# Altium footprint library Edge_logic_analyzer.PcbLib: 51 footprints (part 3 of 4)
Each footprint in its own frame and in the unit in brackets; x right, y up, seen from the top. Pads: shape width x height; smd on the part's side, far side on the other; paste and mask are expansions set on the pad; w line width, h text height; cw(c..) or ccw(c..) is an arc to the next point about the centre after c.
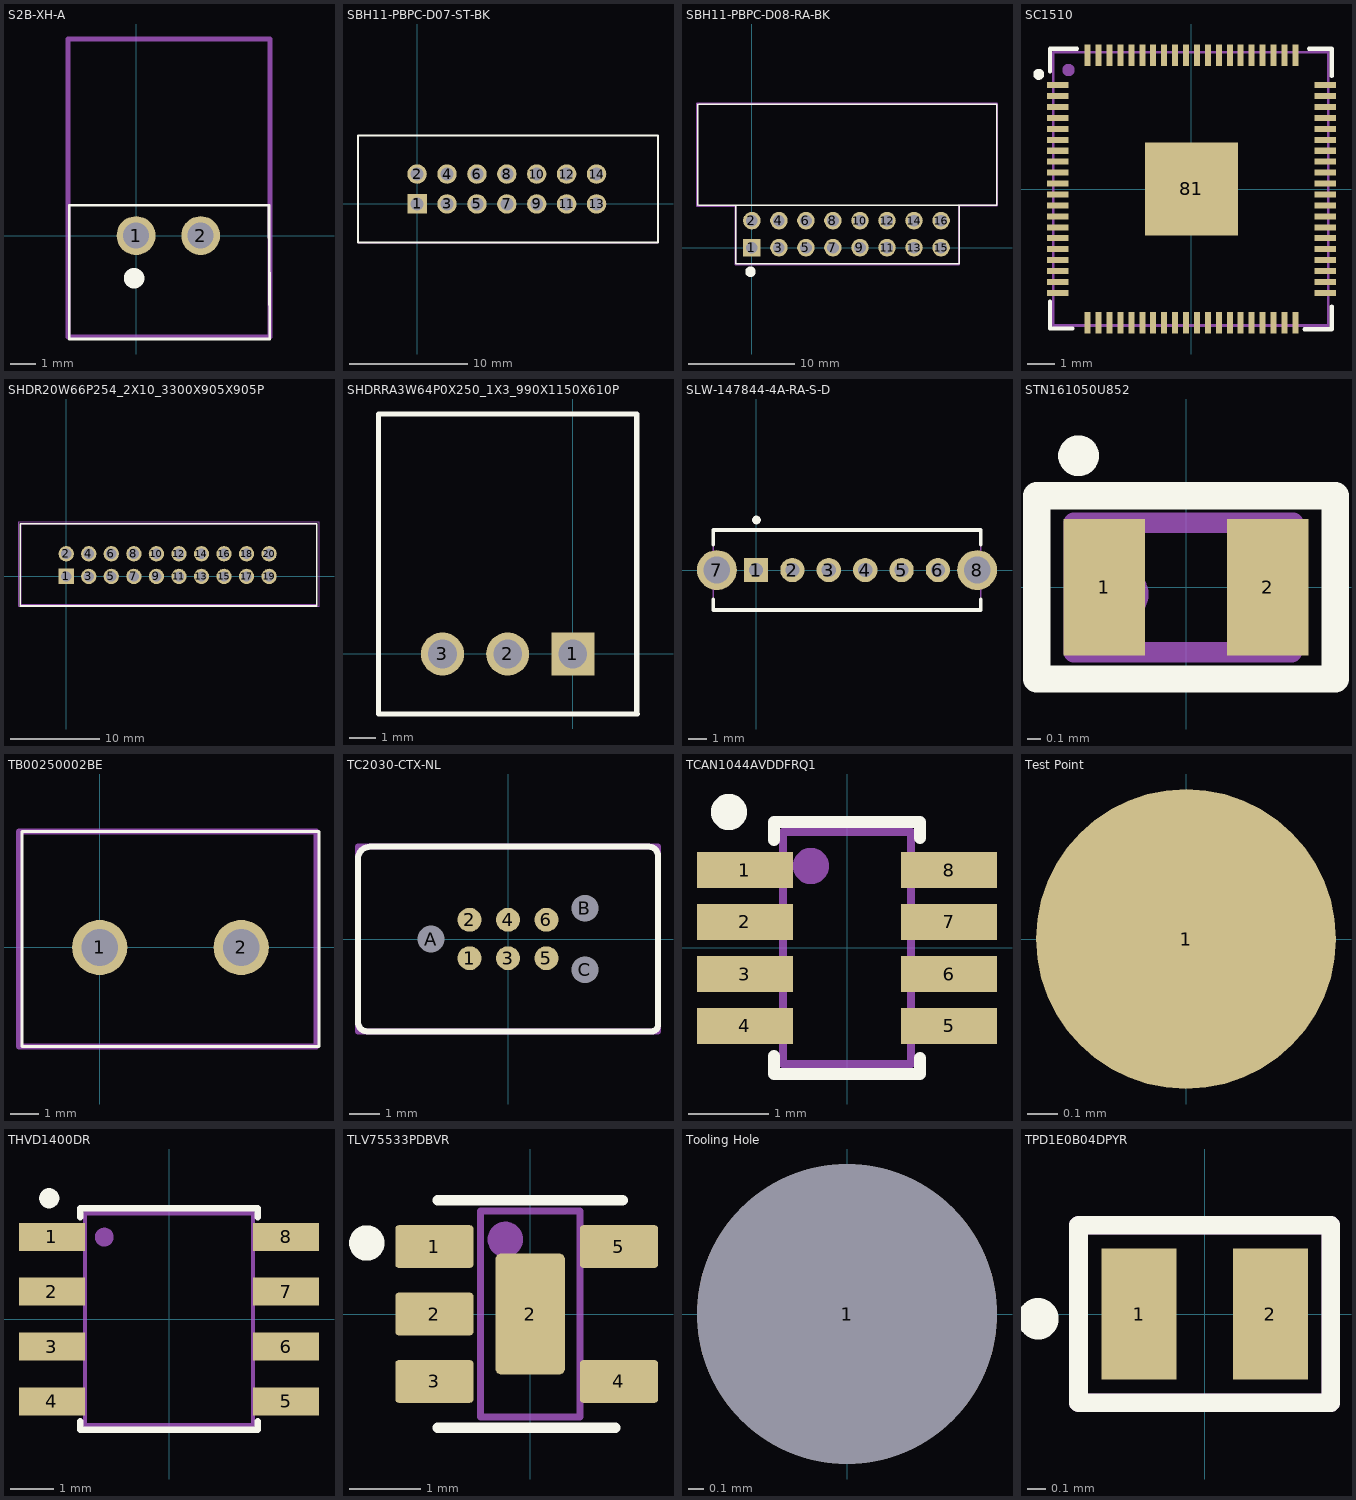
[diagram p2: the footprints below, top view; thin cyan lines are the x and y axes]

## S2B-XH-A [mm]
pads (2):
  round 1.5 hole 1: 1(0,0) 2(2.5,0)
Top Overlay:
  circle w0.5: c-0.075,-1.65 r0.146
  lines w0.1: -2.575,-4 5.165,-4 5.141,1.175 -2.575,1.175 -2.575,-4
Mechanical 29:
  circle w0.5: c0,0 r0.247
  lines w0.2: -2.625,-3.925 0.4,-3.925 5.175,-3.925 5.175,7.6 -2.625,7.6 -2.625,-3.225 -2.625,-3.925
  text "'.Designator'" at 0.625,2.25 h1
3D body "S2B-XH-A-1_LF__SN_.stp": height 6.15, standoff -3.39, extent -2.42,-3.93 4.98,7.57

## SBH11-PBPC-D07-ST-BK [mm]
pads (14):
  rect 1.65x1.65 hole 1.1: 1(0,0)
  round 1.65 hole 1.1: 2(0,2.54) 3(2.54,0) 4(2.54,2.54) 5(5.08,0) 6(5.08,2.54) 7(7.62,0) 8(7.62,2.54) 9(10.16,0) 10(10.16,2.54) 11(12.7,0) 12(12.7,2.54) 13(15.24,0) 14(15.24,2.54)
Top Overlay:
  lines w0.2: -5.02,-3.28 -5.02,0 -5.02,5.82 20.46,5.82 20.46,-3.28 0,-3.28 -5.02,-3.28
Mechanical 29:
  circle w0.5: c0,0 r0.25
  lines w0.1: -5.02,-3.28 -5.02,5.82 20.46,5.82 20.46,-3.28 -5.02,-3.28
  text "'.Designator'" at 6.925,1.275 h1
3D body "SBH11-PBPC-D07-ST-BK.stp": height 9.1, standoff -3, extent -5.02,-3.28 20.26,5.82

## SBH11-PBPC-D08-RA-BK [mm]
pads (16):
  rect 1.65x1.65 hole 1.1: 1(0,0)
  round 1.65 hole 1.1: 2(0,2.54) 3(2.54,0) 4(2.54,2.54) 5(5.08,0) 6(5.08,2.54) 7(7.62,0) 8(7.62,2.54) 9(10.16,0) 10(10.16,2.54) 11(12.7,0) 12(12.7,2.54) 13(15.24,0) 14(15.24,2.54) 15(17.78,0) 16(17.78,2.54)
Top Overlay:
  circle w0.5: c-0.127,-2.261 r0.24
  lines w0.15: -5.076,4 -5.076,13.5 ; -5,4 23,4 23,13.5 -5,13.5 ; -2.191,4 -1.5,4 -1.5,-1.5 19.428,-1.5 19.5,-1.5 19.5,4
Mechanical 29:
  circle w0.5: c0,0 r0.24
  lines w0.2: -5.156,3.937 -5.156,13.538 23.038,13.538 23.038,3.962 19.482,3.962 19.482,-1.549 -1.524,-1.549 -1.524,3.937 -5.156,3.937
  text "'.Designator'" at 7.417,6.096 h1
3D body "SBH11-PBPC-D08-RA-BK.stp": height 9.3, standoff -3.4, extent -5.02,-0.32 22.8,13.28

## SC1510 [mm] "IC - MCU - ARM Microcontrollers - MCU RP2350B 150MHz clock Dual Arm Cortex-M33 cores 520KB RAM 8KB on-chip QFN-80"
pads (81):
  rect 0.78x0.22 smd mask+0.03: 1(-4.896,3.8) 2(-4.896,3.4) 3(-4.896,3) 4(-4.896,2.6) 5(-4.896,2.2) 6(-4.896,1.8) 7(-4.896,1.4) 8(-4.896,1) 9(-4.896,0.6) 10(-4.896,0.2) 11(-4.896,-0.2) 12(-4.896,-0.6) 13(-4.896,-1) 14(-4.896,-1.4) 15(-4.896,-1.8) 16(-4.896,-2.2) 17(-4.896,-2.6) 18(-4.896,-3) 19(-4.896,-3.4) 20(-4.896,-3.8) 41(4.897,-3.801) 42(4.897,-3.401) 43(4.897,-3.001) 44(4.897,-2.601) 45(4.897,-2.201) 46(4.897,-1.801) 47(4.897,-1.401) 48(4.897,-1.001) 49(4.897,-0.601) 50(4.897,-0.201) 51(4.897,0.199) 52(4.897,0.599) 53(4.897,0.999) 54(4.897,1.399) 55(4.897,1.799) 56(4.897,2.199) 57(4.897,2.599) 58(4.897,3) 59(4.897,3.4) 60(4.897,3.799)
  rect 0.22x0.78 smd mask+0.03: 21(-3.8,-4.897) 22(-3.4,-4.897) 23(-3,-4.897) 24(-2.6,-4.897) 25(-2.2,-4.897) 26(-1.8,-4.897) 27(-1.4,-4.897) 28(-1,-4.897) 29(-0.6,-4.897) 30(-0.2,-4.897) 31(0.2,-4.897) 32(0.6,-4.897) 33(1,-4.897) 34(1.4,-4.897) 35(1.8,-4.897) 36(2.2,-4.897) 37(2.6,-4.897) 38(3,-4.897) 39(3.4,-4.897) 40(3.8,-4.897) 61(3.8,4.897) 62(3.4,4.897) 63(3,4.897) 64(2.6,4.897) 65(2.2,4.897) 66(1.8,4.897) 67(1.4,4.897) 68(1,4.897) 69(0.6,4.897) 70(0.2,4.897) 71(-0.2,4.897) 72(-0.6,4.897) 73(-1,4.897) 74(-1.4,4.897) 75(-1.8,4.897) 76(-2.2,4.897) 77(-2.6,4.897) 78(-3,4.897) 79(-3.4,4.897) 80(-3.8,4.897)
  rect 3.4x3.4 smd: 81(0,0)
Top Overlay:
  circle w0.2: c-5.588,4.195 r0.1
  lines w0.15: -5.182,-4.115 -5.182,-5.105 -4.347,-5.105 ; -5.182,4.296 -5.182,5.131 -4.191,5.131 ; 4.14,-5.131 5.131,-5.131 5.131,-4.296 ; 4.296,5.131 5.131,5.131 5.131,4.14
Mechanical 29:
  lines w0.1: -5.059,-4.996 -5.059,5.004 5,5.004 5,-4.996 -5.059,-4.996
  lines w0.254: -4.403,4.376 ccw(c-4.5,4.354) -4.4,4.354
  text "'.Designator'" at -0.6,-0.096 h0.8
3D body "SC1510.stp": height 0.9, standoff 0, extent -5.05,-5.046 5.05,5.054

## SHDR20W66P254_2X10_3300X905X905P [mm]
pads (20):
  rect 1.725x1.725 hole 1.15: 1(0,0)
  round 1.725 hole 1.15: 2(0,2.54) 3(2.54,0) 4(2.54,2.54) 5(5.08,0) 6(5.08,2.54) 7(7.62,0) 8(7.62,2.54) 9(10.16,0) 10(10.16,2.54) 11(12.7,0) 12(12.7,2.54) 13(15.24,0) 14(15.24,2.54) 15(17.78,0) 16(17.78,2.54) 17(20.32,0) 18(20.32,2.54) 19(22.86,0) 20(22.86,2.54)
Top Overlay:
  lines w0.2: -5.175,-3.325 28.23,-3.325 28.23,5.92 -5.175,5.92 -5.175,-3.325
Mechanical 15:
  lines w0.05: -5.32,-3.38 -5.32,6.17 28.48,6.17 28.48,-3.38 -5.32,-3.38
Mechanical 29:
  lines w0.1: -5.07,-3.13 28.23,-3.13 28.23,5.92 -5.07,5.92 -5.07,-3.13
  lines w0.254: 0.119,0.005 ccw(c0.022,-0.018) 0.122,-0.018
  text "'.Designator'" at 9.072,1.075 h0.8
3D body "302-S201.stp": height 9.05, standoff -3.2, extent -5.07,-3.255 27.93,5.795

## SHDRRA3W64P0X250_1X3_990X1150X610P [mm]
pads (3):
  rect 1.65x1.65 hole 1.1: 1(0,0)
  round 1.65 hole 1.1: 2(-2.5,0) 3(-5,0)
Top Overlay:
  lines w0.2: -7.45,-2.3 -7.45,9.2 2.45,9.2 2.45,-2.275 ; -7.425,-2.3 2.475,-2.3
Mechanical 29:
  lines w0.1: -7.45,-2.3 -7.45,9.2 2.45,9.2 2.45,-2.3 -7.45,-2.3
  lines w0.254: 0.097,0.023 ccw(c0,0) 0.1,0
  text "'.Designator'" at -3.5,3.325 h0.8
3D body "S3B-XH-A.STEP": height 6.1, standoff -3.4, extent -7.55,-2.325 2.35,9.175

## SLW-147844-4A-RA-S-D [mm]
pads (8):
  rect 1.337x1.337 hole 0.78: 1(0,0)
  round 1.337 hole 0.78: 2(2,0) 3(4,0) 4(6,0) 5(8,0) 6(10,0)
  round 2.19 hole 1.46: 7(-2.15,0) 8(12.15,0)
Top Overlay:
  circle w0.254: c0.025,2.75 r0.112
  lines w0.2: -2.35,-1.6 -2.35,-2.2 12.35,-2.2 12.35,-1.6 ; -2.35,1.4 -2.35,2.2 12.35,2.2 12.35,1.4
Mechanical 29:
  circle w0.4: c0,0 r0.1
  lines w0.1: -2.35,-2.2 -2.35,2.2 12.35,2.2 12.35,-2.2 -2.35,-2.2
  text "'.Designator'" at 4.4,0.15 h0.8
3D body "SLW-147844-4A-RA-S-D.stp": height 4.7, standoff -3.3, extent -2.35,-6.175 12.35,2.225

## STN161050U852 [mm]
pads (2):
  rect 0.6x1 smd mask+0.064: 1(-0.6,0) 2(0.6,0)
Top Overlay:
  circle w0.2: c-0.787,0.965 r0.05
  lines w0.2: -1.095,-0.672 -1.094,0.673 1.094,0.673 1.094,-0.672 -1.095,-0.672
Mechanical 29:
  circle w0.2: c-0.475,-0.05 r0.1
  lines w0.15: -0.825,0.475 -0.825,-0.475 -0.425,-0.475 0.375,-0.475 0.775,-0.475 0.775,0.475 ; -0.812,0.475 -0.219,0.475 0.319,0.475 0.788,0.475
  text "'.Designator'" at -0.561,-0.102 h0.8
3D body "D1213A-01LP-7B v3.step": height 0.5, standoff 0, extent -0.537,-0.337 0.537,0.337

## TB00250002BE [mm]
pads (2):
  round 1.95 hole 1.3: 1(0,0) 2(5,0)
Top Overlay:
  lines w0.1: -2.75,-3.5 7.75,-3.5 7.75,4.1 -2.75,4.1 -2.75,-3.5
Mechanical 29:
  circle w0.4: c0,0 r0.2
  lines w0.2: -2.852,-3.5 7.648,-3.5 7.648,4.1 -2.852,4.1 -2.852,-3.5
  text "'.Designator'" at 1.575,0.25 h0.8
3D body "TB002-500-02BE.stp": height 9.99, standoff -4.36, extent -2.939,-3.485 7.561,4.115

## TC2030-CTX-NL [mil]
pads (9):
  round 31 smd paste-19.68: 1(-50,-25) 2(-50,25) 3(0,-25) 4(0,25) 5(50,-25) 6(50,25)
  round 34 hole 35 unplated: A(-100,0) B(100,40) C(100,-40)
Top Overlay:
  lines w7.87: -195,-108.15 ccw(c-183.15,-108.15) -183.15,-120 187.09,-120 ccw(c187.09,-112.09) 195,-112.09 195,108.15 ccw(c183.15,108.15) 183.15,120 -179.21,120 ccw(c-179.21,104.21) -195,104.21 -195,-108.15
Mechanical 29:
  lines w7.87: -194.88,-120.08 195,-120.08 195,120.08 -194.88,120.08 -194.88,-120.08
  text "'.Designator'" at -23.62,0 h33.46

## TCAN1044AVDDFRQ1 [mm]
pads (8):
  rect 1.2x0.45 smd mask+0.04: 1(-1.275,0.975) 2(-1.275,0.325) 3(-1.275,-0.325) 4(-1.275,-0.975) 5(1.275,-0.975) 6(1.275,-0.325) 7(1.275,0.325) 8(1.275,0.975)
Top Overlay:
  circle w0.254: c-1.475,1.7 r0.1
  lines w0.15: -0.914,-1.35 -0.914,-1.575 -0.559,-1.575 0.559,-1.575 0.914,-1.575 0.914,-1.375 ; -0.914,1.35 -0.914,1.575 -0.559,1.575 0.559,1.575 0.914,1.575 0.914,1.375
Mechanical 29:
  circle w0.254: c-0.45,1.025 r0.1
  lines w0.1: -0.8,-1.45 0.8,-1.45 0.8,1.45 -0.8,1.45 -0.8,-1.45
  text "'.Designator'" at -0.6,-0.1 h0.8
3D body "TCAN1044AVDDFRQ1.stp": height 0.9, standoff 0, extent -1.41,-1.45 1.41,1.45

## Test Point [mm]
pads (1):
  round 1 smd paste-1: 1(0,0)

## THVD1400DR [mm]
pads (8):
  rect 1.528x0.65 smd mask+0.06: 1(-2.711,1.905) 2(-2.711,0.635) 3(-2.711,-0.635) 4(-2.711,-1.905) 5(2.711,-1.905) 6(2.711,-0.635) 7(2.711,0.635) 8(2.711,1.905)
Top Overlay:
  circle w0.254: c-2.775,2.8 r0.106
  lines w0.15: -2.057,-2.362 -2.057,-2.565 1.321,-2.565 2.057,-2.565 2.057,-2.362 ; -2.057,2.362 -2.057,2.565 1.321,2.565 2.057,2.565 2.057,2.362
Mechanical 29:
  circle w0.254: c-1.5,1.9 r0.09
  lines w0.1: -1.948,-2.452 1.948,-2.452 1.948,2.452 -1.948,2.452 -1.948,-2.452
  text "'.Designator'" at -0.6,-0.1 h0.8
3D body "THVD1400DR.stp": height 1.63, standoff 0, extent -3.011,-2.451 3.011,2.451

## TLV75533PDBVR [mm] "SOT23, 5-Leads, Body 2,85x2,80mm, Pitch 0,95mm, IPC Medium Density"
height 1.2
pads (6):
  rrect15% 1.1x0.6 smd mask+0.051: 1(-1.35,0.95) 2(-1.35,0) 3(-1.35,-0.95) 4(1.25,-0.95) 5(1.25,0.95)
  rrect15% 0.975x1.7 smd mask+0.051: 2(0,0)
Top Overlay:
  circle w0.25: c-2.3,1 r0.125
  lines w0.15: -1.3,-1.6 1.2,-1.6 ; -1.3,1.6 1.3,1.6
Mechanical 29:
  circle w0.25: c-0.35,1.05 r0.125
  lines w0.1: -0.7,-1.45 0.7,-1.45 0.7,1.45 -0.7,1.45 -0.7,-1.45
  text "'.Designator'" at -0.6,-0.1 h0.8
3D body "TLV75533PDBVR.STEP": height 1.45, standoff 0, extent -1.4,-1.45 1.4,1.45

## Tooling Hole [mm]
pads (1):
  round 2 hole 2 unplated: 1(0,0)

## TPD1E0B04DPYR [mm]
pads (2):
  rect 0.4x0.7 smd mask+0.051: 1(-0.35,0) 2(0.35,0)
Top Overlay:
  circle w0.2: c-0.889,-0.025 r0.01
  lines w0.1: -0.672,-0.473 -0.672,0.473 0.671,0.473 0.671,-0.473 0.544,-0.473 -0.672,-0.473
Mechanical 29:
  circle w0.1: c-0.35,0 r0.05
  lines w0.1: -0.672,-0.473 -0.672,-0.295 -0.672,0.473 -0.545,0.473 0.671,0.473 0.671,-0.473 0.544,-0.473 -0.672,-0.473
  text "'.Designator'" at -0.35,0 h0.5
3D body "X1-DFN1006-2_RH_DIO.step": height 0.54, standoff 0, extent -0.533,-0.337 0.533,0.337